# EAGLE library part LOGIC,DELAYLINE,DS1023(MAXIM) (library QuantumOptics)
DS1023-xx, programmable delay line, Maxim/Dallas, 8-bit serial or parallel, steps 0.25nS to 4nS. http://www.maxim-ic.com/quick_view2.cfm/qv_pk/2608 SOIC-16W or DIP16 only.
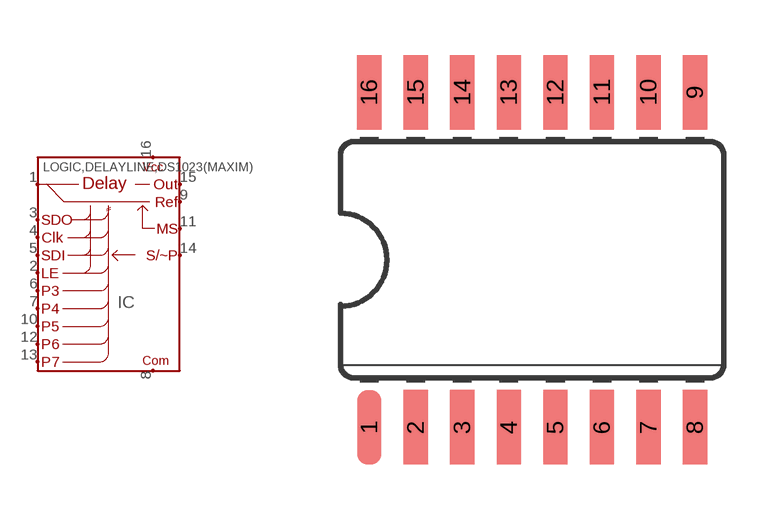
[diagram p114: symbol with the pads of SOIC-16W; footprint SOIC-16W]

Designator prefix IC

## LOGIC,DELAYLINE,DS1023(MAXIM)-SOIC  [SOIC-16W]
1  IN  in
2  LE  in
3  P0/SDO
4  P1/CLK  in
5  P2SDI  in
6  P3  in
7  P4  in
8  COM
9  REF  out
10  P5  in
11  MS  in
12  P6  in
13  P7  in
14  S/~P  in
15  OUT  out
16  VCC

## Footprint SOIC-16W (pad centres in mm)
SOIC-16 Wide on 0.050" grid. http://www.analog.com/UploadedFiles/Packages/37806216RW_16.pdf
smd 0.66 x 2.032: 1 -6.35,-4.572; 2 -5.08,-4.572; 3 -3.81,-4.572; 4 -2.54,-4.572; 5 -1.27,-4.572; 6 0,-4.572; 7 1.27,-4.572; 8 2.54,-4.572; 9 2.54,4.572; 10 1.27,4.572; 11 0,4.572; 12 -1.27,4.572; 13 -2.54,4.572; 14 -3.81,4.572; 15 -5.08,4.572; 16 -6.35,4.572